# EAGLE library part MKKDS03 (library con-phoenix-508)
PHOENIX
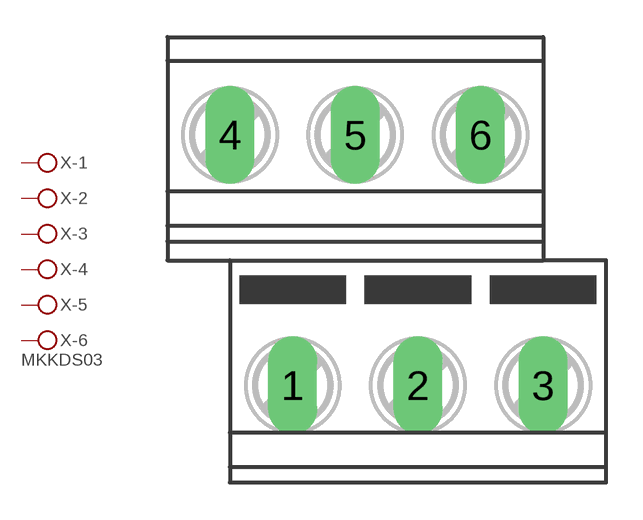
[diagram p12: symbol with the pads of MKKDS03; footprint MKKDS03]

Designator prefix X; gates -1=KL -2=KL -3=KL -4=KL -5=KL -6=KLV

## MKKDS03  [MKKDS03]
1  -1:KL  pas
2  -2:KL  pas
3  -3:KL  pas
4  -4:KL  pas
5  -5:KL  pas
6  -6:KL  pas

## Footprint MKKDS03 (pad centres in mm)
PHOENIX MKKDSN 1,5/ 8-5,08 Source: http://eshop.phoenixcontact.com .. 1726202.pdf
drill 1.321 long: 1 -3.81,-5.08; 2 1.27,-5.08; 3 6.35,-5.08; 4 -6.35,5.08; 5 -1.27,5.08; 6 3.81,5.08